# Altium schematic symbol library ADuM7441.Schlib: 1 symbol
Pins are listed as number, name and electrical type; pins without a type are passive.

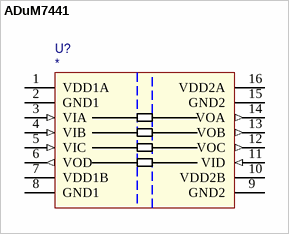
[diagram p0: symbol ADuM7441]

## ADuM7441
designator U?
pins: 1 VDD1A (power), 2 GND1 (power), 3 VIA (in), 4 VIB (in), 5 VIC (in), 6 VOD (out), 7 VDD1B, 8 GND1 (power), 9 GND2 (power), 10 VDD2B, 11 VID (in), 12 VOC (out), 13 VOB (out), 14 VOA (out), 15 GND2 (power), 16 VDD2A (power)